# Altium footprint library PcbLib1.PcbLib: 4 footprints
Each footprint in its own frame and in the unit in brackets; x right, y up, seen from the top. Pads: shape width x height; smd on the part's side, far side on the other; paste and mask are expansions set on the pad; w line width, h text height; cw(c..) or ccw(c..) is an arc to the next point about the centre after c.
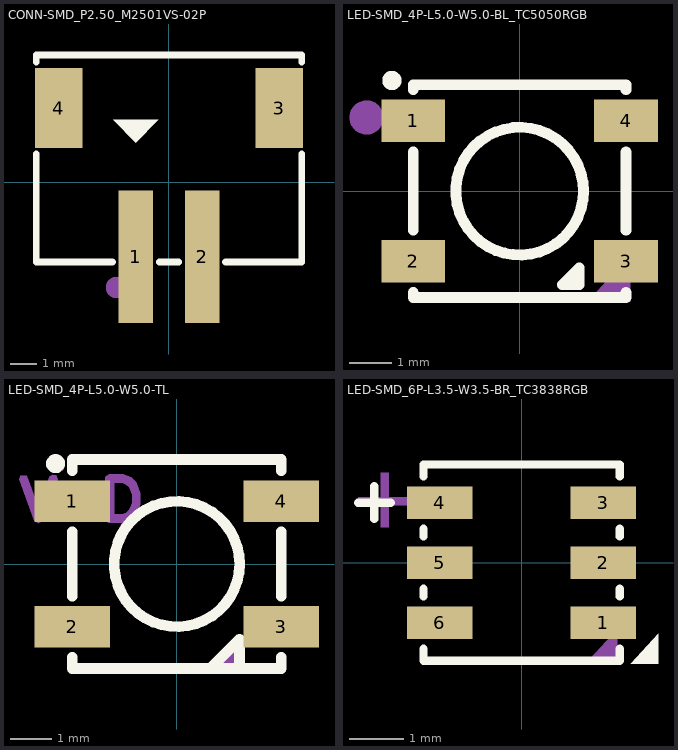
[diagram p0: the footprints below, top view; thin cyan lines are the x and y axes]

## CONN-SMD_P2.50_M2501VS-02P [mm]
pads (4):
  rect 1.3x5 smd: 1(-1.25,-2.8) 2(1.25,-2.8)
  rect 1.8x3 smd: 3(4.15,2.8) 4(-4.15,2.8)
Top Overlay:
  region: -2.1,2.35 -0.4,2.35 -1.25,1.49
  lines w0.254: -5,1.069 -5,-3 -2.131,-3 ; -5,4.531 -5,4.8 ; -5,4.8 5,4.8 5,4.531 ; -0.369,-3 0.369,-3 ; 2.131,-3 5,-3 5,1.069
Mechanical 15:
  circle w0.4: c-1.98,-3.96 r0.2

## LED-SMD_4P-L5.0-W5.0-BL_TC5050RGB [mm]
pads (4):
  rect 1.5x1 smd: 1(-2.5,1.65) 2(-2.5,-1.65) 3(2.5,-1.65) 4(2.5,1.65)
Top Overlay:
  circle w0.254: c-0.001,0 r1.5
  circle w0.254: c-3,2.6 r0.1
  lines w0.254: -2.501,-2.38 -2.501,-2.5 2.499,-2.5 2.499,-2.38 ; -2.501,-0.92 -2.501,0.92 ; -2.501,2.38 -2.501,2.5 2.499,2.5 2.499,2.38 ; 2.499,-0.92 2.499,0.92 ; 0.999,-2.2 1.399,-2.2 1.399,-1.8 0.999,-2.2
Mechanical 15:
  circle w0.4: c-3.597,1.73 r0.2
  region: 2.6,-1.5 2.6,-2.6 1.6,-2.6

## LED-SMD_4P-L5.0-W5.0-TL [mm]
pads (4):
  rect 1.8x1 smd: 1(-2.5,1.5) 2(-2.5,-1.5) 3(2.5,-1.5) 4(2.5,1.5)
Top Overlay:
  circle w0.254: c-2.9,2.4 r0.1
  circle w0.254: c0.001,0 r1.5
  lines w0.254: -2.5,-2.23 -2.5,-2.5 2.5,-2.5 2.5,-2.23 ; -2.5,-0.77 -2.5,0.77 ; -2.5,2.23 -2.5,2.5 2.5,2.5 2.5,2.23 ; 2.5,-0.77 2.5,0.77 ; 0.8,-2.5 1.5,-1.8 1.5,-2.5 0.8,-2.5
Mechanical 15:
  region: -1.5,1.19 -1.5,1.94 -1.3,1.94 -1.21,1.9 -1.14,1.84 -1.11,1.77 -1.07,1.66 -1.07,1.46 -1.11,1.35 -1.15,1.28 -1.21,1.22 -1.31,1.19 -1.31,0.97 -1.08,1.04 -0.97,1.15 -0.87,1.43 -0.87,1.69 -0.97,1.95 -1.09,2.08 -1.28,2.15 -1.62,2.15 -1.71,2.09 -1.71,1.07 -1.64,0.99 -1.32,0.98 -1.32,1.19
  region: -3.315,1.37 -3.035,2.1 -2.965,2.14 -2.885,2.12 -2.845,2.03 -3.215,1.04 -3.305,0.98 -3.405,1.04 -3.775,2.03 -3.735,2.12 -3.595,2.11
  region: 1.5,-2.5 1.5,-1.8 0.8,-2.5

## LED-SMD_6P-L3.5-W3.5-BR_TC3838RGB [mm]
pads (6):
  rect 1.2x0.6 smd: 1(1.5,-1.1) 2(1.5,0) 3(1.5,1.1) 4(-1.5,1.1) 5(-1.5,0) 6(-1.5,-1.1)
Top Overlay:
  region: 2.5,-1.3 2.5,-1.85 2,-1.85
  lines w0.152: -3,1.1 -2.4,1.1 ; -2.7,0.8 -2.7,1.237 -2.7,1.399 ; -1.8,-1.58 -1.8,-1.8 1.8,-1.8 1.8,-1.58 ; -1.8,-0.62 -1.8,-0.48 ; -1.8,0.48 -1.8,0.62 ; -1.8,1.58 -1.8,1.8 1.8,1.8 1.8,1.58 ; 1.8,-0.62 1.8,-0.48 ; 1.8,0.48 1.8,0.62
Mechanical 15:
  region: 1.75,-1.225 1.75,-1.775 1.25,-1.775
  region: -3,1.2 -2,1.2 -2,1.05 -3,1.05
  region: -2.587,0.645 -2.587,1.645 -2.437,1.645 -2.437,0.645